# Altium integrated library HTLInn_RLCQ.IntLib: 16 symbols
Pins are listed as number, name and electrical type; pins without a type are passive.

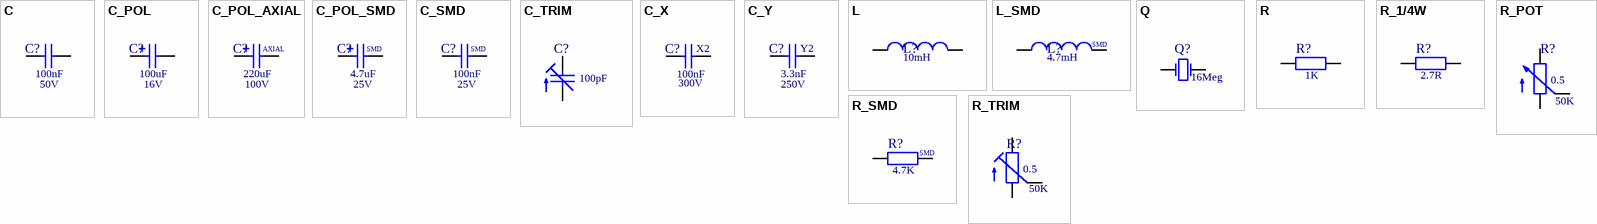
[diagram p0: symbols C to R_TRIM]

## C
designator C?, comment Rated Voltage: 50V  (hidden comment: 100nF)
Capacitor; Usage: only permitted for non-commercial purposes at HTL I Innsbruck; Published: 21-Feb-2011; LatestRevisionDate: 07-Sep-2019; Value: 100nF
signal-integrity model C (Capacitor)
simulation model C (Capacitor)
footprint C_RM1-024X044 (RM1, outline 2.4 x 4.4 mm)
footprint C_RM1-025X050 (RM1, outline 2.5 x 5 mm)
footprint C_RM1-030X050 (RM1, outline 3 x 5 mm)
footprint C_RM1-040X050 (RM1, outline 4 x 5 mm)
footprint C_RM1-050X050 (RM1, outline 5 x 5 mm)
footprint C_RM1-060X050 (RM1, outline 6 x 5 mm)
footprint C_RM1_RM2-024X070 (RM1 or RM2, outline 2.4 x 7.0 mm)
footprint C_RM1_RM2-025X075 (RM1 or RM2, outline 2.5 x 7.5 mm)
footprint C_RM1_RM2-035X075 (RM1 or RM2, outline 3.5 x 7.5 mm)
footprint C_RM1_RM2-045X075 (RM1 or RM2, outline 4.5 x 7.5 mm)
footprint C_RM1_RM2-055X075 (RM1 or RM2, outline 5.5 x 7.5 mm)
footprint C_RM2-024X044 (RM2, outline 2.4 x 4.4 mm)
footprint C_RM2-025X075 (RM2, outline 2.5 x 7.5 mm)
footprint C_RM2-030X075 (RM2, outline 3 x 7.5 mm)
footprint C_RM2-035X075 (RM2, outline 3.5 x 7.5 mm)
footprint C_RM2-050X075 (RM2, outline 5 x 7.5 mm)
footprint C_RM2-045X075 (RM2, outline 4.5 x 7.5 mm)
footprint C_RM2-055X075 x 11.5mm (RM2, outline 5.5 x 7.5 mm, height 11.5mm)
footprint C_RM2-075X075 (RM2, outline 7.5 x 7.5 mm)
footprint C_RM3-032X103 (RM3, outline 3.2 x 10.3 mm)
footprint C_RM3-042X103 (RM3, outline 4.2 x 10.3 mm)
footprint C_RM3-052X106 (RM3, outline 5.2 x 10.6 mm)
footprint C_RM3-063X106 (RM3, outline 6.3 x 10.6 mm)
footprint C_RM2-025X075 - 100nF (RM2, outline 2.5 x 7.5 mm, 100nF)
footprint C_RM2-025X075 - with Ceramic Disc Capacitor (RM2, outline 2.5 x 7.5 mm)
footprint C_RM2-030X075 - 3D (RM2, outline 3 x 7.5 mm)
footprint C_RM2-055X075 x 7mm (RM2, outline 5.5 x 7.5 mm height: 7mm)
footprint C_RM4-043X133 (RM4, outline 4.3 x 13.3 mm)
footprint C_RM4-054X133 (RM4, outline 5.4 x 13.3 mm)
footprint C_RM4-064X133 (RM4, outline 6.4 x 13.3 mm)
footprint C_RM1-030X050 X 5.08mm (RM1, outline 3 x 5 mm, height 5.08mm)
footprint C_RM2-025X075 x 6.5mm (RM2, outline 2.5 x 7.5 mm, height 6.5mm)
footprint C_RM2-030X075 x 7.5mm (RM2, outline 3 x 7.5 mm, height 7.5mm)
footprint C_RM2-045X075 x 6mm (RM2, outline 4.5 x 7.5 mm height: 6mm)
footprint C_RM2-050X075 x 10mm (RM2, outline 5 x 7.5 mm, height 10mm)
footprint C_RM2-075X075 x 13mm (RM2, outline 7.5 x 7.5 mm, height 13mm)
footprint C_RM4-064X133 x 12.5mm (RM4, outline 6.4 x 13.3 mm, height 12.5mm)
footprint C_RM4-043X133 x 9.5mm (RM4, outline 4.3 x 13.3 mm, height 9.5mm)
footprint C_RM4-054X133 x 11mm (RM4, outline 5.4 x 13.3 mm, height 11mm)
pins: 1, 2

## C_POL
designator C?, comment Rated Voltage: 16V  (hidden comment: 100uF)
Polarized Capacitor; Usage: only permitted for non-commercial purposes at HTL I Innsbruck; Published: 21-Feb-2011; LatestRevisionDate: 07-Sep-2019; Value: 100uF
signal-integrity model C_POL (Polarized Capacitor)
simulation model C_POL (Polarized Capacitor)
footprint C_POL_E1,8-4 (grid 1.8 mm, diameter 4 mm)
footprint C_POL_E2-4 (grid 2.032 mm, diameter 4 mm)
footprint C_POL_E2-5 (grid 2.032 mm, diameter 5 mm)
footprint C_POL_E3,5-8 (grid 3.5 mm, diameter 8 mm)
footprint C_POL_E3,5-10 (grid 3.5 mm, diameter 10 mm)
footprint C_POL_RM1-6 (RM1, diameter 6 mm)
footprint C_POL_RM1-7 (RM1, diameter 7 mm)
footprint C_POL_RM2-4 (RM2, diameter 4 mm)
footprint C_POL_RM2-5 (RM2, diameter 5 mm)
footprint C_POL_RM2-6 (RM2, diameter 6 mm)
footprint C_POL_RM2-8,5 (RM2, diameter 8.5 mm)
footprint C_POL_RM2-10,5 (RM2, diameter 10.5 mm)
footprint C_POL_RM2-13 (RM2, diameter 13 mm)
footprint C_POL_RM3-16 (RM3, diameter 16 mm)
footprint C_POL_RM3-18 (RM3, diameter 18 mm)
footprint C_POL_E2,5-5 (2,5mm, diameter 5 mm)
footprint C_POL_E3,5-8 x 11.5mm (grid 3.5 mm, diameter 8 mm, height 11.5mm)
footprint C_POL_RM2-13 x 25mm (RM2, diameter 13 mm, height 25mm)
footprint C_POL_E1,8-4 x 11mm (grid 1.8 mm, diameter 4 mm, height 11mm)
footprint C_POL_E2-5 x 7mm (grid 2.032 mm, diameter 5 mm, height 7mm)
footprint C_POL_E2-5 x 11mm (grid 2.032 mm, diameter 5 mm, height 11mm)
footprint C_POL_RM2-10,5 x 12.5mm (RM2, diameter 10.5 mm, height 12.5mm)
footprint C_POL_RM2-10,5 x 16mm (RM2, diameter 10.5 mm, height 16mm)
footprint C_POL_RM2-13 x 15mm (RM2, diameter 13 mm, height 15mm)
footprint C_POL_RM3-16 x 25mm (RM3, diameter 16 mm, height 25mm)
footprint C_POL_RM3-18 x 33.5mm (RM3, diameter 18 mm, height 33.5mm)
pins: 1 +, 2 -

## C_POL_AXIAL
designator C?, comment Rated Voltage: 100V  (hidden comment: 220uF)
Polarized Capacitor, Axial; Usage: only permitted for non-commercial purposes at HTL I Innsbruck; Published: 21-Sep-2013; LatestRevisionDate: 07-Sep-2019; Value: 220uF
signal-integrity model C_POL_AXIAL (Polarized Capacitor)
simulation model C_POL_AXIAL (Polarized Capacitor)
footprint RM6-5 (RM6 (grid 15.24 mm), diameter 5 mm)
footprint RM6-6 (RM6 (grid 15.24 mm), diameter 6 mm)
footprint RM6-9 (RM6 (grid 15.24 mm), diameter 9 mm)
footprint RM9-6 (RM9 (grid 22.86 mm), diameter 6 mm)
footprint RM9-9 (RM9 (grid 22.86 mm), diameter 9 mm)
footprint RM9-10 (RM9 (grid 22.86 mm), diameter 10 mm)
footprint RM10-9 (RM10 (grid 25.4 mm), diameter 9 mm)
footprint RM10-10 (RM10 (grid 25.4 mm), diameter 10 mm)
footprint RM12-12 (RM12 (grid 30.48 mm), diameter 12 mm)
footprint RM12-16 (RM12 (grid 30.48 mm), diameter 16 mm)
pins: 1 +, 2 -
text: AXIAL

## C_POL_SMD
designator C?, comment Rated Voltage: 25V  (hidden comment: 4.7uF)
SMD Polarized Capacitor; Usage: only permitted for non-commercial purposes at HTL I Innsbruck; Published: 21-Feb-2011; LatestRevisionDate: 07-Sep-2019; Value: 4.7uF
signal-integrity model C_POL_SMD (Polarized Capacitor)
footprint C_POL_SMD_PANASONIC_A (SMD, Panasonic Aluminium Electrolytic Capacitor VS-Serie Package A)
footprint C_POL_SMD_PANASONIC_B (SMD, Panasonic Aluminium Electrolytic Capacitor VS-Serie Package B)
footprint C_POL_SMD_PANASONIC_C (SMD, Panasonic Aluminium Electrolytic Capacitor VS-Serie Package C)
footprint C_POL_SMD_PANASONIC_D (SMD, Panasonic Aluminium Electrolytic Capacitor VS-Serie Package D)
footprint C_POL_SMD_PANASONIC_E (SMD, Panasonic Aluminium Electrolytic Capacitor VS-Serie Package E)
footprint C_POL_SMD_PANASONIC_F (SMD, Panasonic Aluminium Electrolytic Capacitor VS-Serie Package F)
footprint C_POL_SMD_PANASONIC_G (SMD, Panasonic Aluminium Electrolytic Capacitor VS-Serie Package G)
footprint C_POL_SMD_KEMET_A (Tantal, KEMET A, EIA-Code 1206, EIA-Metric 3216-18 (3.2mmx1.6mmx1.6mm))
footprint C_POL_SMD_KEMET_B (Tantal, KEMET B, EIA-Code 1210, EIA-Metric 3528-21 (3.5mmx2.8mmx1.9mm))
footprint C_POL_SMD_KEMET_C (Tantal, KEMET C, EIA-Code 2312, EIA-Metric 6032-28 (6mmx3.2mmx2.6mm))
footprint C_POL_SMD_KEMET_D (Tantal, KEMET D, EIA-Code 2917, EIA-Metric 7343-31 (7.3mmx4.3mmx2.9mm))
footprint C_POL_SMD_KEMET_E (Tantal, KEMET E, EIA-Code 2717, EIA-Metric 7343-43 (7.3mmx4.3mmx4.1mm))
footprint C_POL_SMD_KEMET_F (Tantal, KEMET F, EIA-Code 2312, EIA-Metric 6032-20 (6mmx3.2mmx2.0mm))
footprint C_POL_SMD_KEMET_S (Tantal, KEMET S, EIA-Code 1206, EIA-Metric 3216-12 (3.2mmx1.6mmx1.2mm))
footprint C_POL_SMD_KEMET_T (Tantal, KEMET T, EIA-Code 1210, EIA-Metric 3528-12 (3.5mmx2.8mmx1.2mm))
simulation model C_POL_SMD (Polarized Capacitor SMD)
pins: 1 +, 2 -
text: SMD

## C_SMD
designator C?, comment Rated Voltage: 25V  (hidden comment: 100nF)
SMD Capacitor; Usage: only permitted for non-commercial purposes at HTL I Innsbruck; Published: 21-Feb-2011; LatestRevisionDate: 07-Sep-2019; Value: 100nF
simulation model C_SMD (SMD Capacitor)
signal-integrity model C_SMD (SMD Capacitor)
footprint C_SMD_C0402 (SMD, 0402)
footprint C_SMD_C0603 (SMD, 0603)
footprint C_SMD_C0805 (SMD, 0805)
footprint C_SMD_C1005 (SMD, 1005)
footprint C_SMD_C1206 (SMD, 1206)
footprint C_SMD_C1210 (SMD, 1210)
footprint C_SMD_C1812 (SMD, 1812)
footprint C_SMD_C3216 (SMD, 3216)
pins: 1, 2
text: SMD

## C_TRIM
designator C?, comment 100pF
Adjustable Capacitor; Usage: only permitted for non-commercial purposes at HTL I Innsbruck; Rated Voltage: 50V; Published: 21-Feb-2011; LatestRevisionDate: 07-Sep-2019; Value: 100pF
signal-integrity model C_TRIM (Adjustable Capacitor)
footprint C_TRIM808-BC (Trimm capacitor BC-Components)
footprint C_TRIM3040.427 (Trimm capacitor STELCO GmbH, 7 S-Triko 160 V DC for PCB)
footprint C_TRIM3050.504 (Trimm capacitor STELCO GmbH, 5 S-Triko 160 V DC for PCB)
simulation model C_TRIM (Adjustable Capacitor)
pins: 1, 2

## C_X
designator C?, comment Class: X2  Rated Voltage: 300V  (hidden comment: 100nF)
X Capacitor (power line); Usage: only permitted for non-commercial purposes at HTL I Innsbruck; Published: 19-Nov-2012; LatestRevisionDate: 07-Sep-2019; Value: 100nF
signal-integrity model C (Capacitor)
simulation model C (Capacitor)
footprint C_X_RM6-050x180 (RM6 (15mm), outline 5 x 18 mm)
footprint C_X_RM6-050x180 x 12mm (RM6 (15mm), outline 5 x 18 mm, height 12mm)
footprint C_X_RM6-060x180 (RM6 (15mm), outline 6 x 18 mm)
footprint C_X_RM6-085x180 (RM6 (15mm), outline 8.5 x 18 mm)
footprint C_X_RM6-100x180 (RM6 (15mm), outline 10 x 18 mm)
footprint C_X_RM9-070x265 (RM9 (22.5mm), outline 7 x 26.5 mm)
footprint C_X_RM9-105x265 (RM9 (22.5mm), outline 10.5 x 26.5 mm)
footprint C_X_RM11-110x315 (RM11 (27.5mm), outline 11 x 31.5 mm)
footprint C_X_RM11-135x315 (RM11 (27.5mm), outline 13.5 x 31.5 mm)
footprint C_X_RM11-150x315 (RM11 (27.5mm), outline 15 x 31.5 mm)
footprint C_X_RM11-180x315 (RM11 (27.5mm), outline 18 x 31.5 mm)
pins: 1, 2

## C_Y
designator C?, comment Rated Voltage: 250V  Class: Y2  (hidden comment: 3.3nF)
Y Capacitor (power line); Usage: only permitted for non-commercial purposes at HTL I Innsbruck; Published: 19-Nov-2012; LatestRevisionDate: 07-Sep-2019; Value: 3.3nF
signal-integrity model C (Capacitor)
simulation model C (Capacitor)
footprint C_Y_RM3-050x120 (RM3 (7.62mm), outline 5 x 12 mm)
footprint C_Y_RM4-040x130 (RM4 (10 mm), outline 4 x 13 mm)
footprint C_Y_RM4-050x130 (RM4 (10 mm), outline 5 x 13 mm)
footprint C_Y_RM5.9-050x175 (RM5.9 (15 mm), outline 5 x 17.5 mm)
footprint C_Y_RM5.9-060x175 (RM5.9 (15 mm), outline 6 x 17.5 mm)
footprint C_Y_RM5.9-075x175 (RM5.9 (15 mm), outline 7.5 x 17.5 mm)
pins: 1, 2

## L
designator L?, comment 10mH
Inductor; Usage: only permitted for non-commercial purposes at HTL I Innsbruck; Published: 21-Feb-2011; LatestRevisionDate: 07-Sep-2019; Value: 10mH
simulation model L (Inductor)
signal-integrity model L (Inductor)
footprint L_0204/RM2 (type 0204, RM2)
footprint L_0204/RM3 (type 0204, RM3)
footprint L_0204V/RM1 (type 0204, RM 1)
footprint L_0207/RM3 (type 0207, RM3)
footprint L_0207/RM4 (type 0207, RM4)
footprint L_0207V/RM1 (type 0207, RM1)
footprint L_0309/RM5 (type 0309, RM5)
footprint L_0309V/RM1 (type 0309, RM1)
footprint L_COIL (coil)
pins: 1, 2

## L_SMD
designator L?, comment 4.7mH
SMD Inductor; Usage: only permitted for non-commercial purposes at HTL I Innsbruck; Published: 21-Feb-2011; LatestRevisionDate: 07-Sep-2019; Value: 4.7mH
simulation model L_SMD (SMD Inductor)
signal-integrity model L_SMD (SMD Inductor)
footprint L_SMD_L0402 (SMD, 0402)
footprint L_SMD_L0603 (SMD, 0603)
footprint L_SMD_L0805 (SMD, 0805)
footprint L_SMD_L1210 (SMD, 1210)
footprint L_SMD_L1812 (SMD, 1812)
footprint L_SMD_L3216 (SMD, 3216)
footprint L__SMD_6mmx6mm (SMD 6mm x 6mm)
pins: 1, 2
text: SMD

## Q
designator Q?, comment 16Meg
Crystal; Usage: only permitted for non-commercial purposes at HTL I Innsbruck; Published: 21-Feb-2011; LatestRevisionDate: 07-Sep-2019; Publisher: Michael Kupfner; FREQ: 16Meg
footprint Q_HC49 (HC49)
footprint Q_TC26 (TC26)
simulation model XTAL (XTAL (Quarz))
footprint Q_HC49 (HC49S) (HC49)
footprint Q_HC49 (HC49U) (HC49)
pins: 1 OSC1, 2 OSC2

## R
designator R?, comment 1K
Resistor; Usage: only permitted for non-commercial purposes at HTL I Innsbruck; Published: 21-Feb-2011; LatestRevisionDate: 07-Sep-2019; Value: 1K
simulation model R (Resistor)
signal-integrity model R (Resistor)
footprint R_0204/RM2 (type 0204, RM2)
footprint R_0204/RM3 (type 0204, RM3)
footprint R_0204V/RM1 (type 0204, RM 1)
footprint R_0207V/RM1 (type 0207, RM1)
footprint R_0207/RM3 (type 0207, RM3)
footprint R_0207/RM4 (type 0207, RM4)
footprint R_0309/RM4 (type 0309, RM4)
footprint R_0309/RM5 (type 0309, RM5)
footprint R_0309V/RM1 (type 0309, RM1)
footprint R_0204V/RM1 - 1k (type 0204, RM 1, 1k)
pins: 1, 2

## R_1/4W
designator R?, comment 2.7R
Resistor; Usage: only permitted for non-commercial purposes at HTL I Innsbruck; Published: 21-Feb-2011; LatestRevisionDate: 07-Sep-2019; Value: 2.7R
simulation model R (Resistor)
signal-integrity model R (Resistor)
footprint 1_R_0207/RM4 - 0R10 (type 0207, RM4, 0.10R)
footprint 2_R_0207/RM4 - 0R12 (type 0207, RM4, 0.12R)
footprint 3_R_0207/RM4 - 0R15 (type 0207, RM4, 0.15R)
footprint 4_R_0207/RM4 - 0R18 (type 0207, RM4, 0.18R)
footprint 5_R_0207/RM4 - 0R22 (type 0207, RM4, 0.22R)
footprint 6_R_0207/RM4 - 0R27 (type 0207, RM4, 0.27R)
footprint 7_R_0207/RM4 - 0R33 (type 0207, RM4, 0.33R)
footprint 8_R_0207/RM4 - 0R39 (type 0207, RM4, 0.39R)
footprint 9_R_0207/RM4 - 0R47 (type 0207, RM4, 0.47R)
footprint 10_R_0207/RM4 - 0R56 (type 0207, RM4, 0.56R)
footprint 11_R_0207/RM4 - 0R68 (type 0207, RM4, 0.68R)
footprint 12_R_0207/RM4 - 0R82 (type 0207, RM4, 0.82R)
footprint 13_R_0207/RM4 - 1R (type 0207, RM4, 1R)
footprint 14_R_0207/RM4 - 1R2 (type 0207, RM4, 1R2)
footprint 15_R_0207/RM4 - 1R5 (type 0207, RM4, 1.5R)
footprint 16_R_0207/RM4 - 1R8 (type 0207, RM4, 1.8R)
footprint 17_R_0207/RM4 - 2R2 (type 0207, RM4, 2.2R)
footprint 18_R_0207/RM4 - 2R7 (type 0207, RM4, 2.7R)
footprint 19_R_0207/RM4 - 3R3 (type 0207, RM4, 3.3R)
footprint 20_R_0207/RM4 - 3R9 (type 0207, RM4, 3.9R)
footprint 21_R_0207/RM4 - 4R7 (type 0207, RM4, 4.7R)
footprint 22_R_0207/RM4 - 5R6 (type 0207, RM4, 5.6R)
footprint 23_R_0207/RM4 - 6R8 (type 0207, RM4, 6.8R)
footprint 24_R_0207/RM4 - 8R2 (type 0207, RM4, 8.2R)
footprint 25_R_0207/RM4 - 10R (type 0207, RM4, 10R)
footprint 26_R_0207/RM4 - 12R (type 0207, RM4, 12R)
footprint 27_R_0207/RM4 - 15R (type 0207, RM4, 15R)
footprint 28_R_0207/RM4 - 18R (type 0207, RM4, 18R)
footprint 29_R_0207/RM4 - 22R (type 0207, RM4, 22R)
footprint 30_R_0207/RM4 - 27R (type 0207, RM4, 27R)
footprint 31_R_0207/RM4 - 33R (type 0207, RM4, 33R)
footprint 32_R_0207/RM4 - 39R (type 0207, RM4, 39R)
footprint 33_R_0207/RM4 - 47R (type 0207, RM4, 47R)
footprint 34_R_0207/RM4 - 56R (type 0207, RM4, 56R)
footprint 35_R_0207/RM4 - 68R (type 0207, RM4, 68R)
footprint 36_R_0207/RM4 - 82R (type 0207, RM4, 82R)
footprint 37_R_0207/RM4 - 100R (type 0207, RM4, 100R)
footprint 38_R_0207/RM4 - 120R (type 0207, RM4, 120R)
footprint 39_R_0207/RM4 - 150R (type 0207, RM4, 150R)
footprint 40_R_0207/RM4 - 180R (type 0207, RM4, 180R)
footprint 41_R_0207/RM4 - 220R (type 0207, RM4, 220R)
footprint 42_R_0207/RM4 - 270R (type 0207, RM4, 270R)
footprint 43_R_0207/RM4 - 330R (type 0207, RM4, 330R)
footprint 44_R_0207/RM4 - 390R (type 0207, RM4, 390R)
footprint 45_R_0207/RM4 - 470R (type 0207, RM4, 470R)
footprint 46_R_0207/RM4 - 560R (type 0207, RM4, 560R)
footprint 47_R_0207/RM4 - 680R (type 0207, RM4, 680R)
footprint 48_R_0207/RM4 - 820R (type 0207, RM4, 820R)
footprint 49_R_0207/RM4 - 1k (type 0207, RM4, 1k)
footprint 50_R_0207/RM4 - 1k2 (type 0207, RM4, 1.2k)
footprint 51_R_0207/RM4 - 1k5 (type 0207, RM4, 1.5k)
footprint 52_R_0207/RM4 - 1k8 (type 0207, RM4, 1.8k)
footprint 53_R_0207/RM4 - 2k2 (type 0207, RM4, 2.2k)
footprint 54_R_0207/RM4 - 2k7 (type 0207, RM4, 2.7k)
footprint 55_R_0207/RM4 - 3k3 (type 0207, RM4, 3.3k)
footprint 56_R_0207/RM4 - 3k9 (type 0207, RM4, 3.9k)
footprint 57_R_0207/RM4 - 4k7 (type 0207, RM4, 4.7k)
footprint 58_R_0207/RM4 - 5k6 (type 0207, RM4, 5.6k)
footprint 59_R_0207/RM4 - 6k8 (type 0207, RM4, 6.8k)
footprint 60_R_0207/RM4 - 8k2 (type 0207, RM4, 8.2k)
footprint 61_R_0207/RM4 - 10k (type 0207, RM4, 10k)
footprint 62_R_0207/RM4 - 12k (type 0207, RM4, 12k)
footprint 63_R_0207/RM4 - 15k (type 0207, RM4, 15k)
footprint 64_R_0207/RM4 - 18k (type 0207, RM4, 18k)
footprint 65_R_0207/RM4 - 22k (type 0207, RM4, 22k)
footprint 66_R_0207/RM4 - 27k (type 0207, RM4, 27k)
footprint 67_R_0207/RM4 - 33k (type 0207, RM4, 33k)
footprint 68x_R_0207/RM4 - 39k (type 0207, RM4, 39k)
footprint 69_R_0207/RM4 - 47k (type 0207, RM4, 47k)
footprint 70_R_0207/RM4 - 56k (type 0207, RM4, 56k)
footprint 71_R_0207/RM4 - 68k (type 0207, RM4, 68k)
footprint 72_R_0207/RM4 - 82k (type 0207, RM4, 82k)
footprint 73_R_0207/RM4 - 100k (type 0207, RM4, 100k)
footprint 74_R_0207/RM4 - 120k (type 0207, RM4, 120k)
footprint 75_R_0207/RM4 - 150k (type 0207, RM4, 150k)
footprint 76_R_0207/RM4 - 180k (type 0207, RM4, 180k)
footprint 77_R_0207/RM4 - 220k (type 0207, RM4, 220k)
footprint 78_R_0207/RM4 - 270k (type 0207, RM4, 270k)
footprint 79_R_0207/RM4 - 330k (type 0207, RM4, 330k)
footprint 80_R_0207/RM4 - 390k (type 0207, RM4, 390k)
footprint 81_R_0207/RM4 - 470k (type 0207, RM4, 470k)
footprint 82_R_0207/RM4 - 560k (type 0207, RM4, 560k)
footprint 83_R_0207/RM4 - 680k (type 0207, RM4, 680k)
footprint 84_R_0207/RM4 - 820k (type 0207, RM4, 820k)
footprint 85_R_0207/RM4 - 1M (type 0207, RM4, 1M)
footprint 86_R_0207/RM4 - 1M2 (type 0207, RM4, 1.2M)
footprint 87_R_0207/RM4 - 1M5 (type 0207, RM4, 1.5M)
footprint 88_R_0207/RM4 - 1M8 (type 0207, RM4, 1.8M)
footprint 89_R_0207/RM4 - 2M2 (type 0207, RM4, 2.2M)
footprint 90_R_0207/RM4 - 2M7 (type 0207, RM4, 2.7M)
footprint 91_R_0207/RM4 - 3M3 (type 0207, RM4, 3.3M)
footprint 92_R_0207/RM4 - 3M9 (type 0207, RM4, 3.9M)
footprint 93_R_0207/RM4 - 4M7 (type 0207, RM4, 4.7M)
footprint 94_R_0207/RM4 - 5M6 (type 0207, RM4, 5.6M)
footprint 95_R_0207/RM4 - 6M8 (type 0207, RM4, 6.8M)
footprint 96_R_0207/RM4 - 8M2 (type 0207, RM4, 8.2M)
footprint 97_R_0207/RM4 - 10M (type 0207, RM4, 10M)
pins: 1, 2

## R_POT
designator R?, comment Set Position: 0.5  (hidden comment: 50K)
Potentiometer; Usage: only permitted for non-commercial purposes at HTL I Innsbruck; Published: 21-Feb-2011; LatestRevisionDate: 07-Sep-2019; Value: 50K
signal-integrity model R_POT (Potentiometer)
simulation model R_POT (Potentiometer)
footprint R_POT_CIP20C-4MM (Carbon Rotary Potentiometers - 20 mm size (Source: Radiohm))
footprint R_POT_CIP20C-6MM (Carbon Rotary Potentiometers - 20 mm size (Source: Radiohm))
footprint R_POT_PT-10 (PT-10 (Piher: LI10))
footprint R_POT_PT-10S (PT-10S)
footprint R_POT_PT-15 (PT-15 (Piher: LI15))
footprint R_POT_PT-15S (PT-15S)
footprint R_POT_63M (Spectrol 63M-T607 or Bourns 3386F-TW)
pins: 1 BOT, 2 TAP, 3 TOP

## R_SMD
designator R?, comment 4.7K
SMD Resistor; Usage: only permitted for non-commercial purposes at HTL I Innsbruck; Published: 21-Feb-2011; LatestRevisionDate: 07-Sep-2019; Value: 4.7K
simulation model R_SMD (SMD Resistor)
signal-integrity model R_SMD (SMD Resistor)
footprint R_SMD_R0805 (SMD, 0805)
footprint R_SMD_R0402 (SMD, 0402)
footprint R_SMD_R0603 (SMD, 0603)
footprint R_SMD_R1005 (SMD, 1005)
footprint R_SMD_R1206 (SMD, 1206)
footprint R_SMD_R1210 (SMD, 1210)
footprint R_SMD_R3216 (SMD, 3216)
pins: 1, 2
text: SMD

## R_TRIM
designator R?, comment Set Position: 0.5  (hidden comment: 50K)
Trimm Potentiometer; Usage: only permitted for non-commercial purposes at HTL I Innsbruck; Published: 21-Feb-2011; LatestRevisionDate: 07-Sep-2019; Value: 50K
simulation model R_TRIM (Trimm Potentiometer)
signal-integrity model R_TRIM (Trimm Potentiometer)
footprint R_TRIM_PT-10 (PT-10 (Piher: LI10))
footprint R_TRIM_PT-10S (PT-10S)
footprint R_TRIM_PT-15 (PT-15 (Piher: LI15))
footprint R_TRIM_PT-15S (PT-15S)
footprint R_TRIM_S64W (S64W (Spectrol))
footprint R_TRIM_S64Y (S64Y (Spectrol))
footprint R_TRIM_T18 (Trimm resistor VISHAY (IP67))
pins: 1, 2, 3